# Altium schematic symbol library Schlib1.SchLib: 1 symbol
Pins are listed as number, name and electrical type; pins without a type are passive.

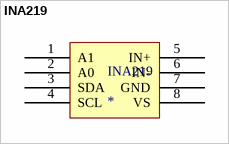
[diagram p0: symbol INA219]

## INA219
designator INA219
footprint INA219 (TSOP, 8-Leads, Body 2.90x1.60mm, Pitch 0.65mm, IPC Medium Density)
pins: 1 A1, 2 A0, 3 SDA, 4 SCL, 5 IN+, 6 IN-, 7 GND, 8 VS